# Altium schematic symbol library MMBT2222A.SchLib: 1 symbol
Pins are listed as number, name and electrical type; pins without a type are passive.

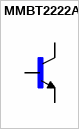
[diagram p0: symbol MMBT2222A]

## MMBT2222A
designator Q?  (value not drawn)
MMBT2222 Series 40 V CE Breakdown 1 A NPN General Purpose Amplifier - SOT-23; MF: Fairchild Semiconductor; Package: SOT-23 Fairchild Semiconductor; MP: MMBT2222A; Price: 0.06 USD; Availability: Good; Value: *
footprint SOT23
pins: 1 B, 2 E, 3 C